# Altium footprint library libysk_passive.PcbLib: 22 footprints (part 2 of 2)
Each footprint in its own frame and in the unit in brackets; x right, y up, seen from the top. Pads: shape width x height; smd on the part's side, far side on the other; paste and mask are expansions set on the pad; w line width, h text height; cw(c..) or ccw(c..) is an arc to the next point about the centre after c.
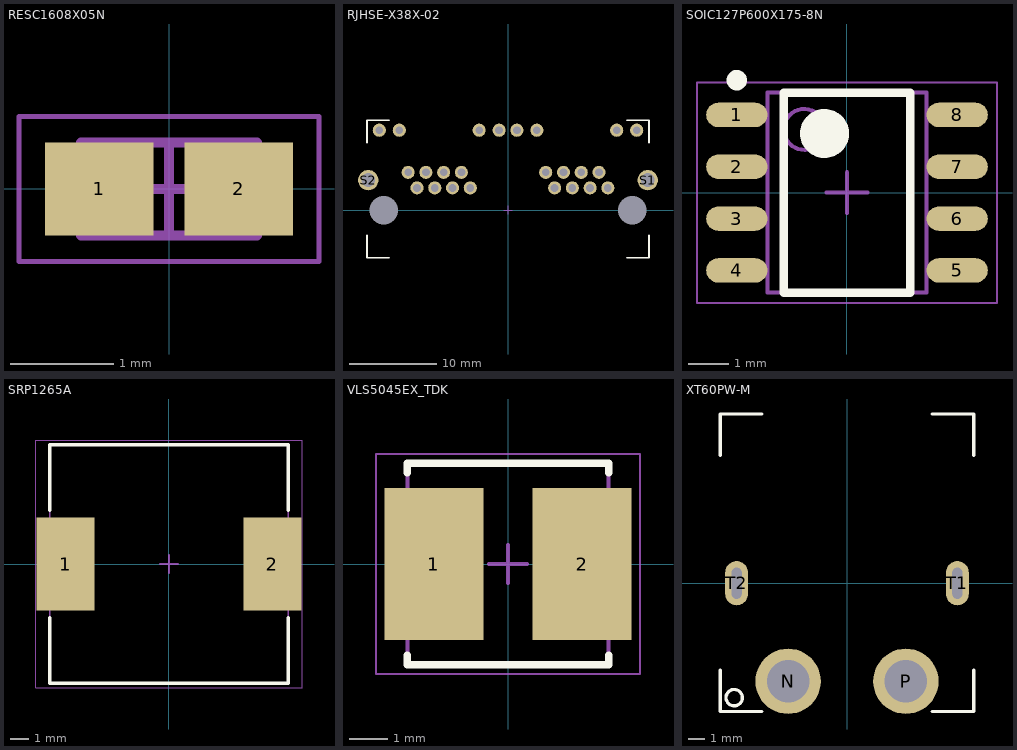
[diagram p1: the footprints below, top view; thin cyan lines are the x and y axes]

## RESC1608X05N [mm] "Chip Resistor, 2-Leads, Body 1.60x0.80mm, IPC Medium Density"
height 0.5
pads (2):
  rect 1.05x0.9 smd: 1(-0.675,0) 2(0.675,0)
Top 3D Body (Mech13):
  lines w0.1: -0.85,-0.45 -0.85,0.45 0.85,0.45 0.85,-0.45 -0.85,-0.45
Top Courtyard:
  lines w0.05: -1.45,-0.7 -1.45,0.7 1.45,0.7 1.45,-0.7 -1.45,-0.7
  lines w0.1: -0.45,0 0.45,0 ; 0,-0.45 0,0.45
3D body "RESC1608X05N.step": height 0.5, standoff 0, extent -0.85,-0.45 0.85,0.45

## RJHSE-X38X-02 [mm]
pads (28):
  round 1.5 hole 0.89: 1-1(11.43,2.54) 1-2(10.414,4.318) 1-3(9.398,2.54) 1-4(8.382,4.318) 1-5(7.366,2.54) 1-6(6.35,4.318) 1-7(5.334,2.54) 1-8(4.318,4.318) 1-9(14.732,9.144) 1-10(12.446,9.144) 1-11(3.302,9.144) 1-12(1.016,9.144) 2-1(-4.318,2.54) 2-2(-5.334,4.318) 2-3(-6.35,2.54) 2-4(-7.366,4.318) 2-5(-8.382,2.54) 2-6(-9.398,4.318) 2-7(-10.414,2.54) 2-8(-11.43,4.318) 2-9(-1.016,9.144) 2-10(-3.302,9.144) 2-11(-12.446,9.144) 2-12(-14.732,9.144)
  round 0 hole 3.251 unplated: *(-14.224,0) *(14.224,0)
  round 2.337 hole 1.575: S1(16.002,3.429) S2(-16.002,3.429)
Top Overlay:
  lines w0.2: -16.129,-2.921 -16.129,-5.461 -13.589,-5.461 ; -16.129,7.747 -16.129,10.287 -13.589,10.287 ; 13.589,-5.461 16.129,-5.461 16.129,-2.921 ; 13.589,10.287 16.129,10.287 16.129,7.747
Top Courtyard:
  lines w0.05: -0.5,0 0.5,0 0,0 0,-0.5 0,0.5
3D body "615016137721_rev1.stp": height 14.52, standoff -3.5, extent -17.189,-6.095 17.189,10.455

## SOIC127P600X175-8N [mm] "SOIC, 8-Leads, Body 4.90x3.90mm, Pitch 1.27mm, IPC Medium Density"
height 1.75
pads (8):
  oval 1.5x0.6 smd: 1(-2.7,1.905) 2(-2.7,0.635) 3(-2.7,-0.635) 4(-2.7,-1.905) 5(2.7,-1.905) 6(2.7,-0.635) 7(2.7,0.635) 8(2.7,1.905)
Top Overlay:
  circle w0.25: c-2.7,2.755 r0.125
  circle w0.6: c-0.55,1.45 r0.3
  lines w0.2: -1.55,-2.45 -1.55,2.45 1.55,2.45 1.55,-2.45 -1.55,-2.45
Top 3D Body (Mech13):
  circle w0.1: c-1.05,1.55 r0.5
  lines w0.1: -1.95,-2.45 -1.95,2.45 1.95,2.45 1.95,-2.45 -1.95,-2.45
Top Courtyard:
  lines w0.05: -3.675,-2.7 -3.675,2.7 3.675,2.7 3.675,-2.7 -3.675,-2.7
  lines w0.1: -0.5,0 0.5,0 ; 0,-0.5 0,0.5
3D body "SOIC127P600X175-8N.step": height 1.75, standoff 0, extent -3,-2.45 3,2.45

## SRP1265A [mm] "Molded Inductor, 2-Leads, Body 12.50x12.50mm, IPC Medium Density"
height 6.5
pads (2):
  rect 3.1x5 smd: 1(-5.55,0) 2(5.55,0)
Top Overlay:
  lines w0.2: -6.4,-2.9 -6.4,-6.4 6.4,-6.4 6.4,-2.9 ; -6.4,2.9 -6.4,6.4 6.4,6.4 6.4,2.9
Top 3D Body (Mech13):
  lines w0.1: -6.4,-6.4 -6.4,6.4 6.4,6.4 6.4,-6.4 -6.4,-6.4
Top Courtyard:
  lines w0.05: -7.15,-6.65 -7.15,6.65 7.15,6.65 7.15,-6.65 -7.15,-6.65
  lines w0.1: -0.5,0 0.5,0 ; 0,-0.5 0,0.5
3D body "SRP1265C SERIES.stp": height 6.31, standoff 0, extent -6.744,-6.3 6.744,6.3

## VLS5045EX_TDK [mm] "Precision Wire Wound Inductor, 2-Leads, Body 5.00x5.00mm, IPC Medium Density"
height 4.5
pads (2):
  rect 2.6x4 smd: 1(-1.95,0) 2(1.95,0)
Top Overlay:
  lines w0.2: -2.65,-2.4 -2.65,-2.65 2.65,-2.65 2.65,-2.4 ; -2.65,2.4 -2.65,2.65 2.65,2.65 2.65,2.4
Top 3D Body (Mech13):
  lines w0.1: -2.65,-2.65 2.65,-2.65 2.65,2.65 -2.65,2.65 -2.65,-2.65
Top Courtyard:
  lines w0.05: -3.475,-2.9 3.475,-2.9 3.475,2.9 -3.475,2.9 -3.475,-2.9
  lines w0.1: -0.5,0 0.5,0 ; 0,-0.5 0,0.5
3D body "vls5045ex.step": height 4.49, standoff -0.01, extent -2.5,-2.5 2.5,2.5

## XT60PW-M [mm] "XT60, 2 pins, Male, PCB mount, TH, R/A"
pads (4):
  round 4 hole 2.6: N(-3.6,-6) P(3.6,-6)
  oval 1.4x2.7 hole 1.9 slot 0.6 at 0 deg: T1(6.75,0) T2(-6.75,0)
Top Overlay:
  circle w0.2: c-6.9,-7 r0.5
  lines w0.2: -7.75,-5.31 -7.75,-7.85 -5.21,-7.85 ; -7.75,7.81 -7.75,10.35 -5.21,10.35 ; 5.21,-7.85 7.75,-7.85 7.75,-5.31 ; 5.21,10.35 7.75,10.35 7.75,7.81
3D body "XT60PW-M --3DModel-STEP-1.STEP": height 8.4, standoff -2.55, extent -7.75,-7.85 7.75,10.35